# Altium footprint library TLNN476M010R6000.PcbLib: 3 footprints
Each footprint in its own frame and in the unit in brackets; x right, y up, seen from the top. Pads: shape width x height; smd on the part's side, far side on the other; paste and mask are expansions set on the pad; w line width, h text height; cw(c..) or ccw(c..) is an arc to the next point about the centre after c.
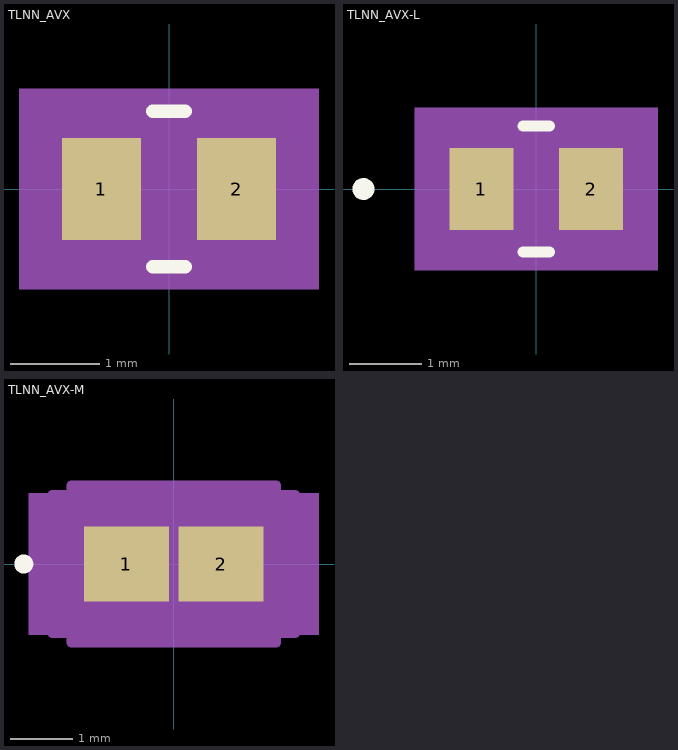
[diagram p0: the footprints below, top view; thin cyan lines are the x and y axes]

## TLNN_AVX [mil]
pads (2):
  rect 34.98x45 smd paste+0 mask+0: 1(-30.01,0) 2(30.01,0)
Top Overlay:
  lines w6: -7.26,-34.5 7.26,-34.5 ; -7.26,34.5 7.26,34.5
Mechanical 5:
  region: 66.5,-44.5 -66.5,-44.5 -66.5,44.5 66.5,44.5
Mechanical 13:
  circle w0: c-34.5,0 r0
  lines w1: -44.5,-29.5 44.5,-29.5 44.5,29.5 -44.5,29.5 -44.5,-29.5
Mechanical 15:
  region: -48.5,-26.5 -51.5,-26.5 -51.5,26.5 -48.5,26.5 -48.5,33.5 48.5,33.5 48.5,26.5 51.5,26.5 51.5,-26.5 48.5,-26.5 48.5,-33.5 -48.5,-33.5
  lines w6: -51.5,-26.5 -51.5,26.5 -48.5,26.5 -48.5,33.5 48.5,33.5 48.5,26.5 51.5,26.5 51.5,-26.5 48.5,-26.5 48.5,-33.5 -48.5,-33.5 -48.5,-26.5 -51.5,-26.5
3D body "TLNN_AVX.step": height 40.98, standoff 0, extent -44.49,-29.49 44.49,29.49

## TLNN_AVX-L [mil]
pads (2):
  rect 34.98x45 smd paste+0 mask+0: 1(-30.01,0) 2(30.01,0)
Top Overlay:
  circle w6: c-94.5,0 r3
  lines w6: -7.26,-34.5 7.26,-34.5 ; -7.26,34.5 7.26,34.5
Mechanical 5:
  region: 66.5,-44.5 -66.5,-44.5 -66.5,44.5 66.5,44.5
Mechanical 13:
  circle w0: c-34.5,0 r3
  lines w1: -44.5,-29.5 44.5,-29.5 44.5,29.5 -44.5,29.5 -44.5,-29.5
Mechanical 15:
  region: -48.5,-26.5 -51.5,-26.5 -51.5,26.5 -48.5,26.5 -48.5,33.5 48.5,33.5 48.5,26.5 51.5,26.5 51.5,-26.5 48.5,-26.5 48.5,-33.5 -48.5,-33.5
  lines w6: -51.5,-26.5 -51.5,26.5 -48.5,26.5 -48.5,33.5 48.5,33.5 48.5,26.5 51.5,26.5 51.5,-26.5 48.5,-26.5 48.5,-33.5 -48.5,-33.5 -48.5,-26.5 -51.5,-26.5
3D body "TLNN_AVX.step": height 40.98, standoff 0, extent -44.49,-29.49 44.49,29.49

## TLNN_AVX-M [mil]
pads (2):
  rect 53.44x47 smd paste+0 mask+0: 1(-29.78,0) 2(29.78,0)
Top Overlay:
  circle w6: c-94.5,0 r3
Mechanical 5:
  region: 91.5,-44.5 -91.5,-44.5 -91.5,44.5 91.5,44.5
Mechanical 13:
  circle w0: c-34.5,0 r3
  lines w1: -44.5,-29.5 44.5,-29.5 44.5,29.5 -44.5,29.5 -44.5,-29.5
Mechanical 15:
  region: -64.5,-43.5 -76.5,-43.5 -76.5,43.5 -64.5,43.5 -64.5,49.5 64.5,49.5 64.5,43.5 76.5,43.5 76.5,-43.5 64.5,-43.5 64.5,-49.5 -64.5,-49.5
  lines w6: -76.5,-43.5 -76.5,43.5 -64.5,43.5 -64.5,49.5 64.5,49.5 64.5,43.5 76.5,43.5 76.5,-43.5 64.5,-43.5 64.5,-49.5 -64.5,-49.5 -64.5,-43.5 -76.5,-43.5
3D body "TLNN_AVX.step": height 40.98, standoff 0, extent -44.49,-29.49 44.49,29.49